# EAGLE library part AT89C51ED2 (library At89c51ed2)
AT89C51ED2 - PLCC68 package 80C52 (8051) compatible Atmel controller Six 8bit I/O Ports 2,7V - 5,5V, -40°C - +85°C 64kB internal ISP flash memory, up to 100,000 write cycles 2048bytes boot ROM, contains a default serial loader (see ATMEL FLIP) 256bytes RAM, 1798bytes XRAM 30MHz/60MHz in X2/X1 mode Keyboard Interface SPI PWM UART Watchdog Idle Mode, Power Down Mode
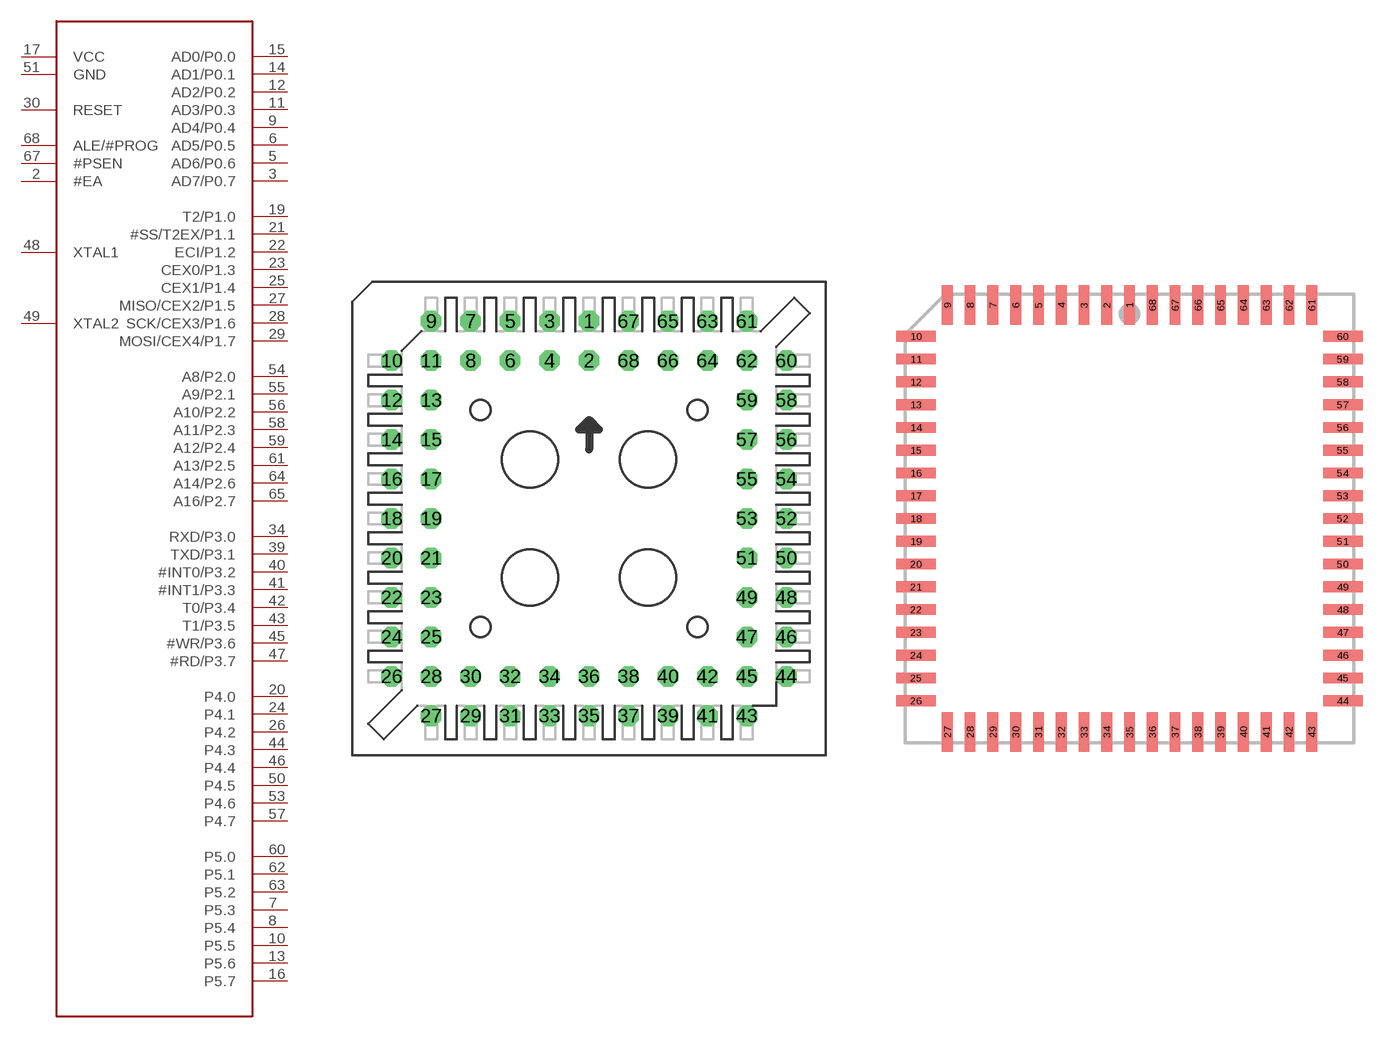
[diagram p0: symbol with the pads of PLCC-S68-SOCKET; footprints PLCC-S68-SOCKET, PLCC68S]

Designator prefix -

## AT89C51ED2SOCK  [PLCC-S68-SOCKET]
2  #EA
3  AD7/P0.7
5  AD6/P0.6
6  AD5/P0.5
7  P5.3
8  P5.4
9  AD4/P0.4
10  P5.5
11  AD3/P0.3
12  AD2/P0.2
13  P5.6
14  AD1/P0.1
15  AD0/P0.0
16  P5.7
17  VCC
19  T2/P1.0
20  P4.0
21  #SS/T2EX/P1.1
22  ECI/P1.2
23  CEX0/P1.3
24  P4.1
25  CEX1/P1.4
26  P4.2
27  MISO/CEX2/P1.5
28  SCK/CEX3/P1.6
29  MOSI/CEX4/P1.7
30  RESET
34  RXD/P3.0
39  TXD/P3.1
40  #INT0/P3.2
41  #INT1/P3.3
42  T0/P3.4
43  T1/P3.5
44  P4.3
45  #WR/P3.6
46  P4.4
47  #RD/P3.7
48  XTAL1
49  XTAL2
50  P4.5
51  GND
53  P4.6
54  A8/P2.0
55  A9/P2.1
56  A10/P2.2
57  P4.7
58  A11/P2.3
59  A12/P2.4
60  P5.0
61  A13/P2.5
62  P5.1
63  P5.2
64  A14/P2.6
65  A16/P2.7
67  #PSEN
68  ALE/#PROG

## AT89C51ED2  [PLCC68S]
Pads as for PLCC-S68-SOCKET

## Footprint PLCC-S68-SOCKET (pad centres in mm)
Plastic Leaded Chip Carrier Socket
drill 0.813 octagon: 1 0,12.7; 2 0,10.16; 3 -2.54,12.7; 4 -2.54,10.16; 5 -5.08,12.7; 6 -5.08,10.16; 7 -7.62,12.7; 8 -7.62,10.16; 9 -10.16,12.7; 10 -12.7,10.16; 11 -10.16,10.16; 12 -12.7,7.62; 13 -10.16,7.62; 14 -12.7,5.08; 15 -10.16,5.08; 16 -12.7,2.54; 17 -10.16,2.54; 18 -12.7,0; 19 -10.16,0; 20 -12.7,-2.54; 21 -10.16,-2.54; 22 -12.7,-5.08; 23 -10.16,-5.08; 24 -12.7,-7.62; 25 -10.16,-7.62; 26 -12.7,-10.16; 27 -10.16,-12.7; 28 -10.16,-10.16; 29 -7.62,-12.7; 30 -7.62,-10.16; 31 -5.08,-12.7; 32 -5.08,-10.16; 33 -2.54,-12.7; 34 -2.54,-10.16; 35 0,-12.7; 36 0,-10.16; 37 2.54,-12.7; 38 2.54,-10.16; 39 5.08,-12.7; 40 5.08,-10.16; 41 7.62,-12.7; 42 7.62,-10.16; 43 10.16,-12.7; 44 12.7,-10.16; 45 10.16,-10.16; 46 12.7,-7.62; 47 10.16,-7.62; 48 12.7,-5.08; 49 10.16,-5.08; 50 12.7,-2.54; 51 10.16,-2.54; 52 12.7,0; 53 10.16,0; 54 12.7,2.54; 55 10.16,2.54; 56 12.7,5.08; 57 10.16,5.08; 58 12.7,7.62; 59 10.16,7.62; 60 12.7,10.16; 61 10.16,12.7; 62 10.16,10.16; 63 7.62,12.7; 64 7.62,10.16; 65 5.08,12.7; 66 5.08,10.16; 67 2.54,12.7; 68 2.54,10.16

## Footprint PLCC68S (pad centres in mm)
PLASTIC LEADED CHIP CARRIER square
smd 0.6 x 2.2: 1 0,11.9; 2 -1.27,11.9; 3 -2.54,11.9; 4 -3.81,11.9; 5 -5.08,11.9; 6 -6.35,11.9; 7 -7.62,11.9; 8 -8.89,11.9; 9 -10.16,11.9; 27 -10.16,-11.9; 28 -8.89,-11.9; 29 -7.62,-11.9; 30 -6.35,-11.9; 31 -5.08,-11.9; 32 -3.81,-11.9; 33 -2.54,-11.9; 34 -1.27,-11.9; 35 0,-11.9; 36 1.27,-11.9; 37 2.54,-11.9; 38 3.81,-11.9; 39 5.08,-11.9; 40 6.35,-11.9; 41 7.62,-11.9; 42 8.89,-11.9; 43 10.16,-11.9; 61 10.16,11.9; 62 8.89,11.9; 63 7.62,11.9; 64 6.35,11.9; 65 5.08,11.9; 66 3.81,11.9; 67 2.54,11.9; 68 1.27,11.9
smd 2.2 x 0.6: 10 -11.9,10.16; 11 -11.9,8.89; 12 -11.9,7.62; 13 -11.9,6.35; 14 -11.9,5.08; 15 -11.9,3.81; 16 -11.9,2.54; 17 -11.9,1.27; 18 -11.9,0; 19 -11.9,-1.27; 20 -11.9,-2.54; 21 -11.9,-3.81; 22 -11.9,-5.08; 23 -11.9,-6.35; 24 -11.9,-7.62; 25 -11.9,-8.89; 26 -11.9,-10.16; 44 11.9,-10.16; 45 11.9,-8.89; 46 11.9,-7.62; 47 11.9,-6.35; 48 11.9,-5.08; 49 11.9,-3.81; 50 11.9,-2.54; 51 11.9,-1.27; 52 11.9,0; 53 11.9,1.27; 54 11.9,2.54; 55 11.9,3.81; 56 11.9,5.08; 57 11.9,6.35; 58 11.9,7.62; 59 11.9,8.89; 60 11.9,10.16